# Altium schematic symbol library SP3222EUEY-L_TR.SchLib: 1 symbol
Pins are listed as number, name and electrical type; pins without a type are passive.

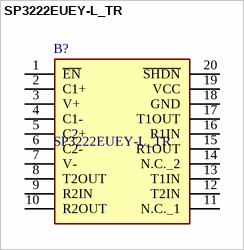
[diagram p0: symbol SP3222EUEY-L_TR]

## SP3222EUEY-L_TR
designator B?
RS-232 Interface IC 1MBPS 3-5.5V RS-232 2-DRV/2-RCV LOW PWR; Manufacturer_Name: MaxLinear, Inc.; Manufacturer_Part_Number: SP3222EUEY-L/TR; Geometry.Height: 1.2mm; Mouser Part Number: 701-SP3222EUEY-L/TR; Mouser Price/Stock: https://www.mouser.co.uk/ProductDetail/MaxLinear/SP3222EUEY-L-TR?qs=Hy8V1%2FADhVJCPI50%2F0eNxw%3D%3D; Datasheet Link: https://componentsearchengine.com/Datasheets/1/SP3222EUEY-L_TR.pdf
footprint SP3222EUEYLTR
pins: 1 ~{EN}, 2 C1+, 3 V+, 4 C1-, 5 C2+, 6 C2-, 7 V-, 8 T2OUT, 9 R2IN, 10 R2OUT, 11 N.C._1, 12 T2IN, 13 T1IN, 14 N.C._2, 15 R1OUT, 16 R1IN, 17 T1OUT, 18 GND, 19 VCC, 20 ~{SHDN}